# Altium schematic symbol library Schlib1.SchLib: 2 symbols
Pins are listed as number, name and electrical type; pins without a type are passive.

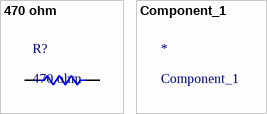
[diagram p0: symbols 470 ohm to Component_1]

## 470 ohm
designator R?
Custom Semiconductor Resistor
simulation model R1 (470 ohm)
footprint Res_Template
pins: 1, 1, 2, 2

## Component_1
designator *